# EAGLE library part BOARD (library fem_header)
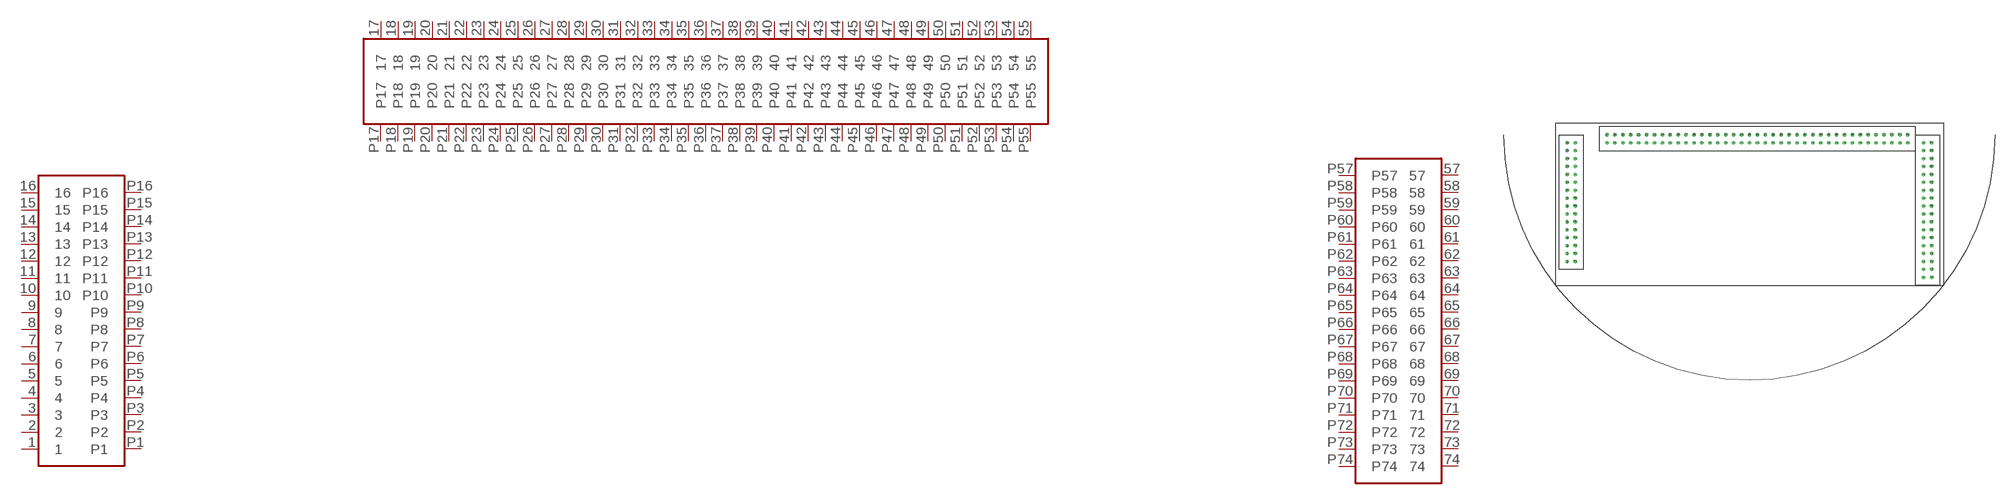
[diagram p0: symbol with the pads of FEMHEADER; footprint FEMHEADER]

Designator prefix -

## BOARD  [FEMHEADER]
1  1
2  2
3  3
4  4
5  5
6  6
7  7
8  8
9  9
10  10
11  11
12  12
13  13
14  14
15  15
16  16
17  17
18  18
19  19
20  20
21  21
22  22
23  23
24  24
25  25
26  26
27  27
28  28
29  29
30  30
31  31
32  32
33  33
34  34
35  35
36  36
37  37
38  38
39  39
40  40
41  41
42  42
43  43
44  44
45  45
46  46
47  47
48  48
49  49
50  50
51  51
52  52
53  53
54  54
55  55
57  57
58  58
59  59
60  60
61  61
62  62
63  63
64  64
65  65
66  66
67  67
68  68
69  69
70  70
71  71
72  72
73  73
74  74
P1  P1
P2  P2
P3  P3
P4  P4
P5  P5
P6  P6
P7  P7
P8  P8
P9  P9
P10  P10
P11  P11
P12  P12
P13  P13
P14  P14
P15  P15
P16  P16
P17  P17
P18  P18
P19  P19
P20  P20
P21  P21
P22  P22
P23  P23
P24  P24
P25  P25
P26  P26
P27  P27
P28  P28
P29  P29
P30  P30
P31  P31
P32  P32
P33  P33
P34  P34
P35  P35
P36  P36
P37  P37
P38  P38
P39  P39
P40  P40
P41  P41
P42  P42
P43  P43
P44  P44
P45  P45
P46  P46
P47  P47
P48  P48
P49  P49
P50  P50
P51  P51
P52  P52
P53  P53
P54  P54
P55  P55
P57  P57
P58  P58
P59  P59
P60  P60
P61  P61
P62  P62
P63  P63
P64  P64
P65  P65
P66  P66
P67  P67
P68  P68
P69  P69
P70  P70
P71  P71
P72  P72
P73  P73
P74  P74

## Footprint FEMHEADER (pad centres in mm)
drill 0.6: 1 -83.82,-7.62; 2 -83.82,-5.08; 3 -83.82,-2.54; 4 -83.82,0; 5 -83.82,2.54; 6 -83.82,5.08; 7 -83.82,7.62; 8 -83.82,10.16; 9 -83.82,12.7; 10 -83.82,15.24; 11 -83.82,17.78; 12 -83.82,20.32; 13 -83.82,22.86; 14 -83.82,25.4; 15 -83.82,27.94; 16 -83.82,30.48; 17 -71.12,33.02; 18 -68.58,33.02; 19 -66.04,33.02; 20 -63.5,33.02; 21 -60.96,33.02; 22 -58.42,33.02; 23 -55.88,33.02; 24 -53.34,33.02; 25 -50.8,33.02; 26 -48.26,33.02; 27 -45.72,33.02; 28 -43.18,33.02; 29 -40.64,33.02; 30 -38.1,33.02; 31 -35.56,33.02; 32 -33.02,33.02; 33 -30.48,33.02; 34 -27.94,33.02; 35 -25.4,33.02; 36 -22.86,33.02; 37 -20.32,33.02; 38 -17.78,33.02; 39 -15.24,33.02; 40 -12.7,33.02; 41 -10.16,33.02; 42 -7.62,33.02; 43 -5.08,33.02; 44 -2.54,33.02; 45 0,33.02; 46 2.54,33.02; 47 5.08,33.02; 48 7.62,33.02; 49 10.16,33.02; 50 12.7,33.02; 51 15.24,33.02; 52 17.78,33.02; 53 20.32,33.02; 54 22.86,33.02; 55 25.4,33.02; 57 33.02,30.48; 58 33.02,27.94; 59 33.02,25.4; 60 33.02,22.86; 61 33.02,20.32; 62 33.02,17.78; 63 33.02,15.24; 64 33.02,12.7; 65 33.02,10.16; 66 33.02,7.62; 67 33.02,5.08; 68 33.02,2.54; 69 33.02,0; 70 33.02,-2.54; 71 33.02,-5.08; 72 33.02,-7.62; 73 33.02,-10.16; 74 33.02,-12.7; P1 -81.28,-7.62; P2 -81.28,-5.08; P3 -81.28,-2.54; P4 -81.28,0; P5 -81.28,2.54; P6 -81.28,5.08; P7 -81.28,7.62; P8 -81.28,10.16; P9 -81.28,12.7; P10 -81.28,15.24; P11 -81.28,17.78; P12 -81.28,20.32; P13 -81.28,22.86; P14 -81.28,25.4; P15 -81.28,27.94; P16 -81.28,30.48; P17 -71.12,30.48; P18 -68.58,30.48; P19 -66.04,30.48; P20 -63.5,30.48; P21 -60.96,30.48; P22 -58.42,30.48; P23 -55.88,30.48; P24 -53.34,30.48; P25 -50.8,30.48; P26 -48.26,30.48; P27 -45.72,30.48; P28 -43.18,30.48; P29 -40.64,30.48; P30 -38.1,30.48; P31 -35.56,30.48; P32 -33.02,30.48; P33 -30.48,30.48; P34 -27.94,30.48; P35 -25.4,30.48; P36 -22.86,30.48; P37 -20.32,30.48; P38 -17.78,30.48; P39 -15.24,30.48; P40 -12.7,30.48; P41 -10.16,30.48; P42 -7.62,30.48; P43 -5.08,30.48; P44 -2.54,30.48; P45 0,30.48; P46 2.54,30.48; P47 5.08,30.48; P48 7.62,30.48; P49 10.16,30.48; P50 12.7,30.48; P51 15.24,30.48; P52 17.78,30.48; P53 20.32,30.48; P54 22.86,30.48; P55 25.4,30.48; P57 30.48,30.48; P58 30.48,27.94; P59 30.48,25.4; P60 30.48,22.86; P61 30.48,20.32; P62 30.48,17.78; P63 30.48,15.24; P64 30.48,12.7; P65 30.48,10.16; P66 30.48,7.62; P67 30.48,5.08; P68 30.48,2.54; P69 30.48,0; P70 30.48,-2.54; P71 30.48,-5.08; P72 30.48,-7.62; P73 30.48,-10.16; P74 30.48,-12.7